# Altium schematic symbol library Length Bar Comparator.SCHLIB: 15 symbols
Pins are listed as number, name and electrical type; pins without a type are passive.

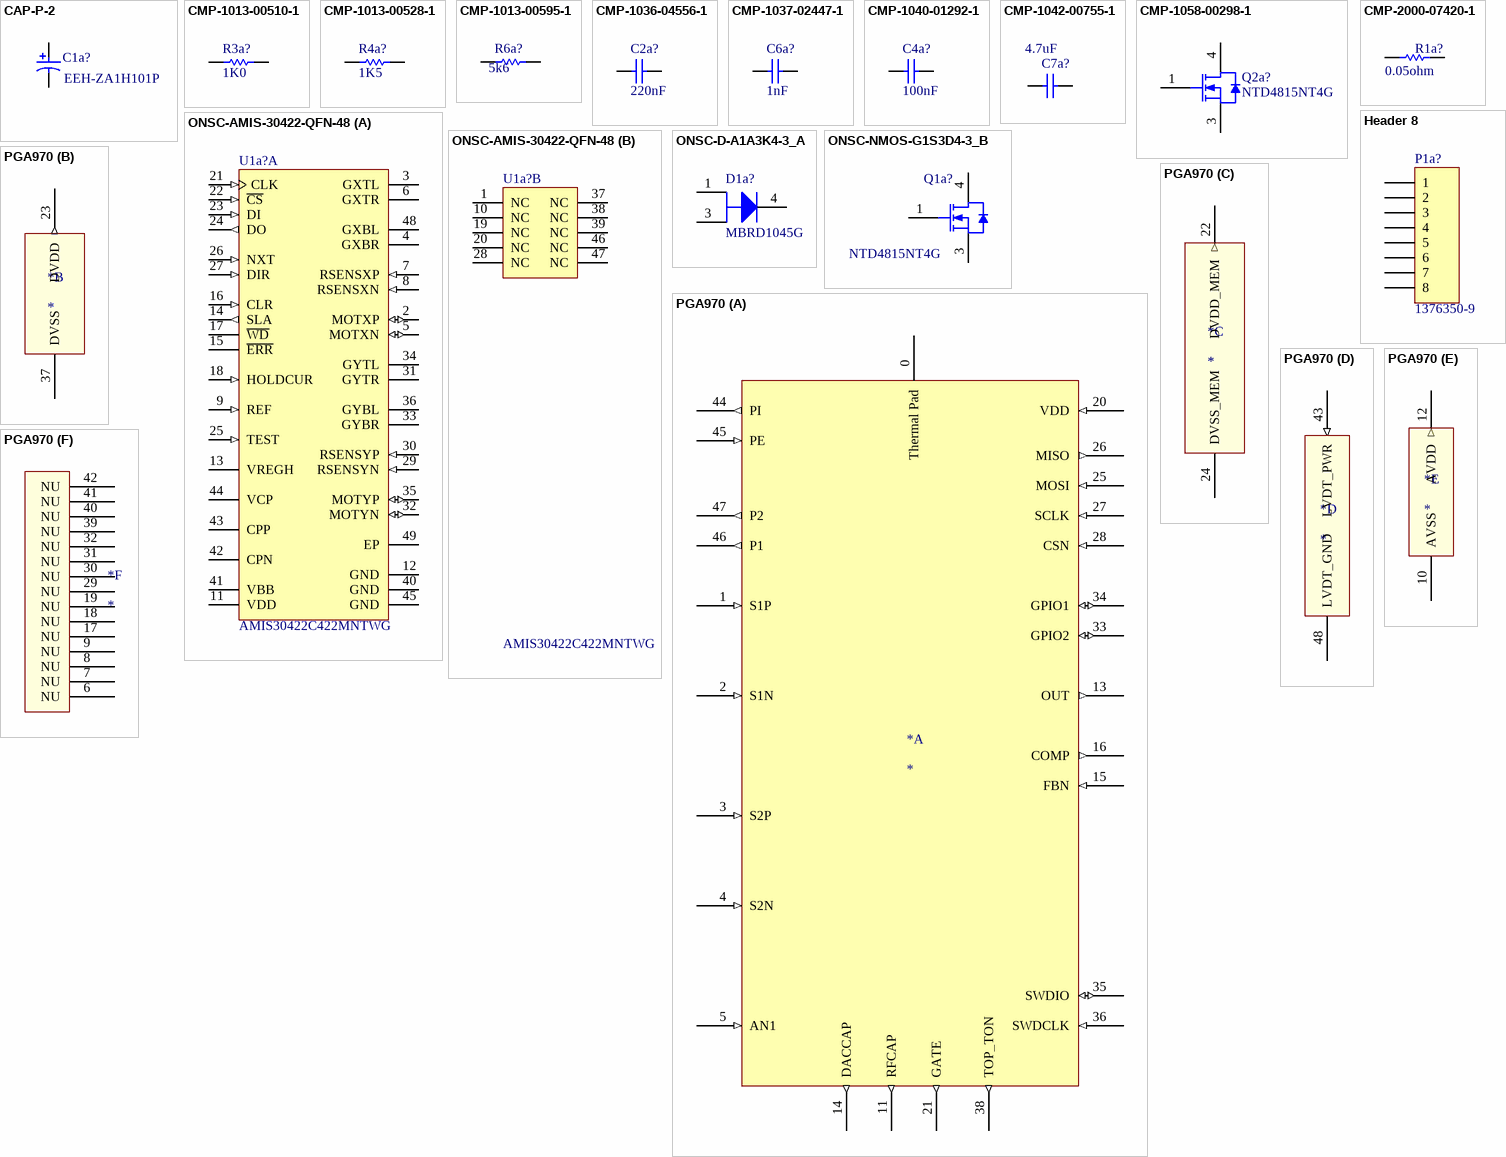
[diagram p0: symbols CAP-P-2 to PGA970]

## CAP-P-2
designator C1a?, comment EEH-ZA1H101P
Conductive Polymer Hybrid Aluminum Electrolytic Capacitor, 100 uF, +/- 20%, 50 V, -55 to 105 degC, 2-Pin SMD (G), RoHS, Tape and Reel; Case Height: 10.5mm; Voltage Rating DC: 50V; Case Diameter: 10mm; Ripple Current: 2A; Load Life: 10000Hour; Brand: Panasonic; Case Length: 10.2mm; ESR: 28mOhms; Capacitance: 100uF; Manufacturer URL: http://www.panasonic.com/; Minimum Operating Temperature: -55C; Datasheet Version: 06/2016; Product Category: AluminumOrganicPolymerCapacitors; Maximum Operating Temperature: +105C; Package Description: 2-Pin Surface Mount Device, Body 10.3 x 10.3 mm; Package Reference: ZA-G; RoHS: Details; Series: ZA; Tolerance: 20%; Product: AluminumElectrolyticCapacitors; Factory Pack Quantity: 500; Manufacturer: Panasonic; Termination Style: SMD/SMT; Datasheet URL: https://industrial.panasonic.com/cdbs/www-data/pdf/RDD0000/DMD0000COL56.pdf; Mounting Technology: SurfaceMount; Packaging: Reel; Height: 10.5mm
footprint PNSC-ZA-G_L (Aluminum Electrolytic Capacitor, Body 10.30x10.30x10.50mm, IPC High Density)
footprint PNSC-ZA-G_M (Aluminum Electrolytic Capacitor, Body 10.30x10.30x10.50mm, IPC Low Density)
footprint PNSC-ZA-G_N (Aluminum Electrolytic Capacitor, Body 10.30x10.30x10.50mm, IPC Medium Density)
pins: 1, 2

## CMP-1013-00510-1
designator R3a?, comment value 1K0  (hidden comment: 1K 1% 0805(2012))
1K 0.125W 1% 0805 (2012 Metric)  SMD; Case-Metric: 2012; Case-EIA: 0805; Tolerance: 1 %; Power: 0.125 W; Technology: SMT
footprint RESC0805(2012)_M (Chip Resistor, Body 2.0x1.3mm, IPC Low Density)
footprint RESC0805(2012)_L (Chip Resistor, Body 2.0x1.3mm, IPC High Density)
footprint RESC0805(2012)_N (Chip Resistor, Body 2.0x1.3mm, IPC Medium Density)
pins: 1, 2
1 alternate drawing of the same symbol

## CMP-1013-00528-1
designator R4a?, comment value 1K5  (hidden comment: 1K5 1% 0805(2012))
1K5 0.125W 1% 0805 (2012 Metric)  SMD; Case-Metric: 2012; Case-EIA: 0805; Technology: SMT; Power: 0.125 W; Tolerance: 1 %
footprint RESC0805(2012)_M (Chip Resistor, Body 2.0x1.3mm, IPC Low Density)
footprint RESC0805(2012)_L (Chip Resistor, Body 2.0x1.3mm, IPC High Density)
footprint RESC0805(2012)_N (Chip Resistor, Body 2.0x1.3mm, IPC Medium Density)
pins: 1, 2
1 alternate drawing of the same symbol

## CMP-1013-00595-1
designator R6a?, comment value 5k6  (hidden comment: 5K6 1% 0805(2012))
5K6 0.125W 1% 0805 (2012 Metric)  SMD; Case-EIA: 0805; Case-Metric: 2012; Technology: SMT; Power: 0.125 W; Tolerance: 1 %
footprint RESC0805(2012)_L (Chip Resistor, Body 2.0x1.3mm, IPC High Density)
footprint RESC0805(2012)_M (Chip Resistor, Body 2.0x1.3mm, IPC Low Density)
footprint RESC0805(2012)_N (Chip Resistor, Body 2.0x1.3mm, IPC Medium Density)
pins: 1, 2
1 alternate drawing of the same symbol

## CMP-1036-04556-1
designator C2a?, comment value 220nF  (hidden comment: CAP 220nF 50V 0805(2012))
CAP 220nF 50V -20% to +80% 0805 (2012 Metric) Thickness 0.75mm SMD; Case-Metric: 2012; Case-EIA: 0805; Technology: SMT; Max Thickness: 0.75 mm; Rated Voltage: 50 V; Tolerance: -20% to +80%
footprint CAPC0805(2012)75_L (Chip Capacitor, Body 2.0x1.2mm, Height 0.75mm, IPC High Density)
footprint CAPC0805(2012)75_N (Chip Capacitor, Body 2.0x1.2mm, Height 0.75mm, IPC Medium Density)
footprint CAPC0805(2012)75_M (Chip Capacitor, Body 2.0x1.2mm, Height 0.75mm, IPC Low Density)
pins: 1, 2
1 alternate drawing of the same symbol

## CMP-1037-02447-1
designator C6a?, comment value 1nF  (hidden comment: CAP 1nF 50V 1206(3216))
CAP 1nF 50V ±2% 1206 (3216 Metric) Thickness 1.7mm SMD; Case-Metric: 3216; Case-EIA: 1206; Tolerance: Â±2%; Technology: SMT; Max Thickness: 1.7 mm; Rated Voltage: 50 V
footprint CAPC1206(3216)170_N (Chip Capacitor, Body 3.2x1.6mm, Height 1.7mm, IPC Medium Density)
footprint CAPC1206(3216)170_M (Chip Capacitor, Body 3.2x1.6mm, Height 1.7mm, IPC Low Density)
footprint CAPC1206(3216)170_L (Chip Capacitor, Body 3.2x1.6mm, Height 1.7mm, IPC High Density)
pins: 1, 2
1 alternate drawing of the same symbol

## CMP-1040-01292-1
designator C4a?, comment value 100nF  (hidden comment: CAP 100nF 50V 1812(4532))
CAP 100nF 50V ±20% 1812 (4532 Metric) Thickness 1.1mm SMD; Case-EIA: 1812; Tolerance: Â±20%; Case-Metric: 4532; Rated Voltage: 50 V; Technology: SMT; Max Thickness: 1.1 mm
footprint CAPC1812(4532)110_N (Chip Capacitor, Body 4.5x3.2mm, Height 1.1mm, IPC Medium Density)
footprint CAPC1812(4532)110_L (Chip Capacitor, Body 4.5x3.2mm, Height 1.1mm, IPC High Density)
footprint CAPC1812(4532)110_M (Chip Capacitor, Body 4.5x3.2mm, Height 1.1mm, IPC Low Density)
pins: 1, 2
1 alternate drawing of the same symbol

## CMP-1042-00755-1
designator C7a?, comment value 4.7uF  (hidden comment: CAP 4.7uF 50V 2220(5750))
CAP 4.7uF 50V ±10% 2220 (5750 Metric) Thickness 2.2mm SMD; Case-Metric: 5750; Tolerance: Â±10%; Case-EIA: 2220; Rated Voltage: 50 V; Max Thickness: 2.2 mm; Technology: SMT
footprint CAPC2220(5750)230_L (Chip Capacitor, Body 5.7x5.0mm, Height 2.3mm, IPC High Density)
footprint CAPC2220(5750)230_M (Chip Capacitor, Body 5.7x5.0mm, Height 2.3mm, IPC Low Density)
footprint CAPC2220(5750)230_N (Chip Capacitor, Body 5.7x5.0mm, Height 2.3mm, IPC Medium Density)
pins: 1, 2
1 alternate drawing of the same symbol

## CMP-1058-00298-1
designator Q2a?, comment NTD4815NT4G
Power MOSFET, 30 V, 35 A, Single N-Channel, 3-Pin DPAK, Pb-Free, Tape and Reel; Manufacturer: On Semiconductor; VGS(th) Max (V): 2.5; VGS Max (V): 20; ID Max (A): 35; Crss Typ (pF): 108; Coss Typ (pF): 181; Channel Polarity: N Channel; V(BR)DSS Min (V): 30; Ciss Typ (pF): 770; Qrr Typ (nC): 5.5; RoHS: Pb-Free; ComponentLink3Description: Package Specification; ComponentLink2URL: http://www.onsemi.cn/pub_link/Collateral/NTD4815N-D.PDF; ComponentLink1Description: Manufacturer URL; DatasheetVersion: Rev. 7; ComponentLink3URL: http://www.onsemi.cn/pub_link/Collateral/369AA.PDF; Package Type: DPAK-3, IPAK-3; PartNumber: NTD4815NT4G; Configuration: Single; PackageVersion: Rev. B, 06/2010; ComponentLink2Description: Datasheet; Mounting Technology: Surface Mount; PackageReference: DPAK-3-369AA-01; ComponentLink1URL: http://www.onsemi.com/; PackageDescription: 3-Pin Flange Mount, Body 6.54 x 6.095 mm, Pitch 2.29 mm; Packing: Tape and Reel
footprint ONSC-DPAK-3-369AA-01_V (DPAK, 3-Leads, Body 6.54x6.095mm, Pitch 2.29mm)
pins: 1 G, 3 S, 4 D

## CMP-2000-07420-1
designator R1a?, comment Resistance: 0.05ohm  (hidden comment: WSL2512R0500FEA)
Chip Resistor, 50 mOhm, +/- 1%, 1 W, -65 to 170 degC, 2512 (6432 Metric), RoHS, Tape and Reel; Manufacturer: Vishay; Power Rating: 1W; Automotive Qualification Standard: AEC-Q200; Temperature Coefficient: ±75ppm/°C; Resistor Case Style: 2512[6432Metric]; SVHC: NoSVHC(15-Jun-2015); Product Range: WSLSeries; Resistor Element Type: MetalStrip; Manufacturer URL: http://www.vishay.com/; Datasheet Version: 07/2016; Package Reference: 2512; Resistance Tolerance: ±1%; Datasheet URL: http://www.vishay.com/docs/30100/wsl.pdf; Mounting Technology: SurfaceMount; MSL: MSL1-Unlimited; Package Description: 2-Pin Surface Mount Device, Body 6.35 x 3.18 mm; Packaging: CutTape
footprint RESC6432X89X76LL25T25 (Chip Resistor, 2-Leads, Body 6.6x3.43mm, IPC High Density)
footprint RESC6432X89X76ML25T25 (Chip Resistor, 2-Leads, Body 6.6x3.43mm, IPC Low Density)
footprint RESC6432X89X76NL25T25 (Chip Resistor, 2-Leads, Body 6.6x3.43mm, IPC Medium Density)
pins: 1, 2

## Header 8
designator P1a?, comment 1376350-9
Header, 8-Pin; LatestRevisionDate: 17-Jul-2002; LatestRevisionNote: Re-released for DXP Platform.; Publisher: Altium Limited
footprint HDR1X8 (Connector; Header; 8 Position)
signal-integrity model Connector
pins: 1, 2, 3, 4, 5, 6, 7, 8

## ONSC-AMIS-30422-QFN-48
designator U1a?, comment AMIS30422C422MNTWG
Micro-Stepping Stepper Motor Bridge Controller, 6 to 30 V, -40 to 170 degC, 48-Pin QFN (485AJ-01), RoHS, Tape and Reel; Manufacturer: ON Semiconductor; IO Max (A): 15; Feedback Method: Back EMF/Sensorless; VCC Min (V): 6; IO Peak Max (A): 20; Current Sense: External Resistor; VCC Max (V): 30; ComponentLink1Description: Manufacturer URL; DatasheetVersion: Rev. 0; PackageDescription: 48-Pin Quad Flat No-Lead Package, Body 7 x 7 mm, Pitch 0.5 mm; Packing: Tape and Reel; Mounting Technology: Surface Mount; ComponentLink2Description: Datasheet; ComponentLink3URL: http://www.onsemi.cn/pub_link/Collateral/485AJ.PDF; Type: Stepper; ComponentLink2URL: http://www.onsemi.com/pub_link/Collateral/AMIS-30422-D.PDF; ComponentLink3Description: Package Specification; PackageReference: QFN-48-485AJ-01; PartNumber: AMIS30422C422MNTWG; PackageVersion: Rev. O; ComponentLink1URL: http://www.onsemi.com/; RoHS: TRUE; PartId: 1
footprint ONSC-QFN-48-485AJ-01_V (QFN, 48-Leads, Body 7x7mm, Pitch 0.5mm, Thermal Pad 5.2x5.2mm)
part A pins: 2 MOTXP (io) "Positive end of phase X-coil", 3 GXTL (hiz) "Gate of external NMOS FET of the X bridge top left side", 4 GXBR (hiz) "Gate of external NMOS FET of the X bridge bottom", 5 MOTXN (io) "Negative end of phase X-coil", 6 GXTR (hiz) "Gate of external NMOS FET of the X bridge top right", 7 RSENSXP (in) "Resistor sense of the X bridge positive pin", 8 RSENSXN (in) "Resistor sense of the X bridge negative pin", 9 REF (in) "Maximum Coil Current Setting", 11 VDD (power) "Low voltage supply output (needs external decoupling capacitor)", 12 GND (power) "Ground, heat sink", 13 VREGH (power) "High voltage supply output", 14 SLA (out) "Speed and Load Angle output", 15 ~{ERR} (hiz) "Error output", 16 CLR (in) "Clear input", 17 ~{WD} (hiz) "Watchdog and Power On Reset output", 18 HOLDCUR (in) "Hold Current Input", 21 CLK (in) "SPI Clock input", 22 ~{CS} (in) "SPI Chip Select input", 23 DI (in) "SPI Data input", 24 DO (out) "SPI Data output", 25 TEST (in) "Test input. To be tied to ground.", 26 NXT (in) "Next Microstep input", 27 DIR (in) "Direction input", 29 RSENSYN (in) "Resistor sense of the Y bridge negative pin", 30 RSENSYP (in) "Resistor sense of the Y bridge positive pin", 31 GYTR (hiz) "Gate of external NMOS FET of the Y bridge top right side", 32 MOTYN (io) "Negative end of phase Y-coil", 33 GYBR (hiz) "Gate of external NMOS FET of the Y bridge bottom right side", 34 GYTL (hiz) "Gate of external NMOS FET of the Y bridge top left side", 35 MOTYP (io) "Positive end of phase Y-coil", 36 GYBL (hiz) "Gate of external NMOS FET of the Y bridge bottom left side", 40 GND (power) "Ground, heat sink", 41 VBB (power) "High voltage supply input", 42 CPN "Negative connection of charge pump capacitor", 43 CPP "Positive connection of charge pump capacitor", 44 VCP "Charge Pump filter capacitor", 45 GND (power) "Ground, heat sink", 48 GXBL (hiz) "Gate of external NMOS FET of the X bridge bottom left side", 49 EP
part B pins: 1 NC "Not connected or connect with ground", 10 NC "Not connected or connect with ground", 19 NC "Not connected or connect with ground", 20 NC "Not connected or connect with ground", 28 NC "Not connected or connect with ground", 37 NC "Not connected or connect with ground", 38 NC "Not connected or connect with ground", 39 NC "Not connected or connect with ground", 46 NC "Negative connection of charge pump capacitor", 47 NC "Negative connection of charge pump capacitor"

## ONSC-D-A1A3K4-3_A
designator D1a?, comment MBRD1045G
SWITCHMODE(TM) Schottky Power Rectifier, 3-Pin DPAK, Pb-Free, Tube; Manufacturer: On Semiconductor; Note1: 0; IFSM Max (A): 70; Configuration: Single; ComponentLink2URL: http://www.onsemi.cn/pub_link/Collateral/MBRB1045-D.PDF; PackageVersion: Rev. E, 02/2014; PackageDescription: 3-Pin Flange Mount, Body 6.54 x 6.095 mm, Pitch 2.29 mm; ComponentLink2Description: Datasheet; Packing: Tube; RoHS: TRUE; ComponentLink3Description: Package Specification; PackageReference: DPAK-3-369C-01; ComponentLink1URL: http://www.onsemi.com/; DatasheetVersion: Rev. 8; ComponentLink1Description: Manufacturer URL; PartNumber: MBRD1045G; Mounting Technology: Surface Mount; ComponentLink3URL: http://www.onsemi.cn/pub_link/Collateral/369C.PDF
footprint ONSC-DPAK-3-369C-01_V (DPAK, 3-Leads, Body 6.54x6.095mm, Pitch 2.29mm)
pins: 1 A, 3 A, 4 K

## ONSC-NMOS-G1S3D4-3_B
designator Q1a?, comment NTD4815NT4G
Power MOSFET, 30 V, 35 A, Single N-Channel, 3-Pin DPAK, Pb-Free, Tape and Reel; Manufacturer: On Semiconductor; VGS(th) Max (V): 2.5; VGS Max (V): 20; ID Max (A): 35; Crss Typ (pF): 108; Coss Typ (pF): 181; Channel Polarity: N Channel; V(BR)DSS Min (V): 30; Ciss Typ (pF): 770; Qrr Typ (nC): 5.5; RoHS: Pb-Free; ComponentLink3Description: Package Specification; ComponentLink2URL: http://www.onsemi.cn/pub_link/Collateral/NTD4815N-D.PDF; ComponentLink1Description: Manufacturer URL; DatasheetVersion: Rev. 7; ComponentLink3URL: http://www.onsemi.cn/pub_link/Collateral/369AA.PDF; Package Type: DPAK-3, IPAK-3; PartNumber: NTD4815NT4G; Configuration: Single; PackageVersion: Rev. B, 06/2010; ComponentLink2Description: Datasheet; Mounting Technology: Surface Mount; PackageReference: DPAK-3-369AA-01; ComponentLink1URL: http://www.onsemi.com/; PackageDescription: 3-Pin Flange Mount, Body 6.54 x 6.095 mm, Pitch 2.29 mm; Packing: Tape and Reel
footprint ONSC-DPAK-3-369AA-01_V (DPAK, 3-Leads, Body 6.54x6.095mm, Pitch 2.29mm)
pins: 1 G, 3 S, 4 D

## PGA970
designator *
part A pins: 0 Thermal Pad, 1 S1P (in), 2 S1N (in), 3 S2P (in), 4 S2N (in), 5 AN1 (in), 11 RFCAP (out), 13 OUT (out), 14 DACCAP (out), 15 FBN (in), 16 COMP (out), 20 VDD (in), 21 GATE (out), 25 MOSI (in), 26 MISO (out), 27 SCLK (in), 28 CSN (in), 33 GPIO2 (io), 34 GPIO1 (io), 35 SWDIO (io), 36 SWDCLK (in), 38 TOP_TON (out), 44 PI (out), 45 PE (in), 46 P1 (out), 47 P2 (out)
part B pins: 23 DVDD (out), 37 DVSS (power)
part C pins: 22 DVDD_MEM (out), 24 DVSS_MEM (power)
part D pins: 43 LVDT_PWR (in), 48 LVDT_GND (power)
part E pins: 10 AVSS (power), 12 AVDD (out)
part F pins: 6 NU, 7 NU, 8 NU, 9 NU, 17 NU, 18 NU, 19 NU, 29 NU, 30 NU, 31 NU, 32 NU, 39 NU, 40 NU, 41 NU, 42 NU